# Altium integrated library QTH-090-01-X-D-A.IntLib: 1 symbol
Pins are listed as number, name and electrical type; pins without a type are passive.

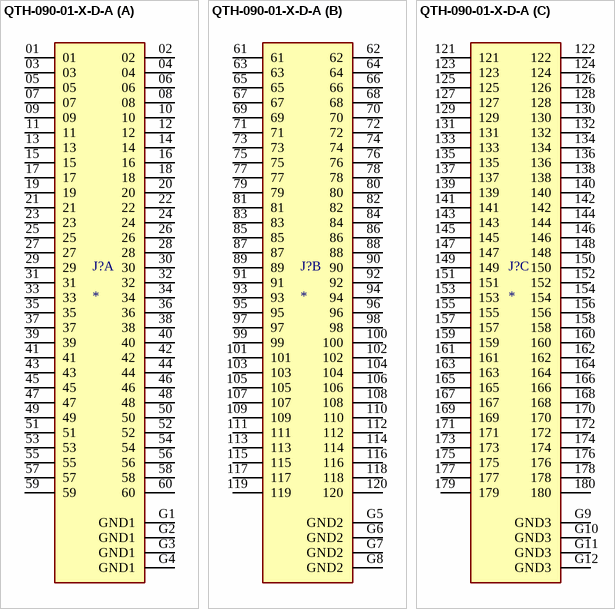
[diagram p0: symbol QTH-090-01-X-D-A]

## QTH-090-01-X-D-A
designator J?
180 Position Connector Header, Outer Shroud Contacts Surface Mount Gold; MP: QTH-090-01-H-D-A-TR; MF: Samtec Inc.; Package: None; SnapEDA_Link: https://www.snapeda.com/parts/QTH-090-01-H-D-A-TR/Samtec/view-part/7395961/?ref=snap; Value: *; Availability: Not in stock; Price: None; Check_prices: https://www.snapeda.com/parts/QTH-090-01-H-D-A-TR/Samtec/view-part/7395961/?ref=eda
footprint SAMTEC_QTH-090-01-X-D-A
part A pins: 01, 02, 03, 04, 05, 06, 07, 08, 09, 10, 11, 12, 13, 14, 15, 16, 17, 18, 19, 20, 21, 22, 23, 24, 25, 26, 27, 28, 29, 30, 31, 32, 33, 34, 35, 36, 37, 38, 39, 40, 41, 42, 43, 44, 45, 46, 47, 48, 49, 50, 51, 52, 53, 54, 55, 56, 57, 58, 59, 60, G1 GND1 (power), G2 GND1 (power), G3 GND1 (power), G4 GND1 (power)
part B pins: 61, 62, 63, 64, 65, 66, 67, 68, 69, 70, 71, 72, 73, 74, 75, 76, 77, 78, 79, 80, 81, 82, 83, 84, 85, 86, 87, 88, 89, 90, 91, 92, 93, 94, 95, 96, 97, 98, 99, 100, 101, 102, 103, 104, 105, 106, 107, 108, 109, 110, 111, 112, 113, 114, 115, 116, 117, 118, 119, 120, G5 GND2 (power), G6 GND2 (power), G7 GND2 (power), G8 GND2 (power)
part C pins: 121, 122, 123, 124, 125, 126, 127, 128, 129, 130, 131, 132, 133, 134, 135, 136, 137, 138, 139, 140, 141, 142, 143, 144, 145, 146, 147, 148, 149, 150, 151, 152, 153, 154, 155, 156, 157, 158, 159, 160, 161, 162, 163, 164, 165, 166, 167, 168, 169, 170, 171, 172, 173, 174, 175, 176, 177, 178, 179, 180, G9 GND3 (power), G10 GND3 (power), G11 GND3 (power), G12 GND3 (power)